# Altium footprint library LM2596_DC_DC.PcbLib: 2 footprints
Each footprint in its own frame and in the unit in brackets; x right, y up, seen from the top. Pads: shape width x height; smd on the part's side, far side on the other; paste and mask are expansions set on the pad; w line width, h text height; cw(c..) or ccw(c..) is an arc to the next point about the centre after c.
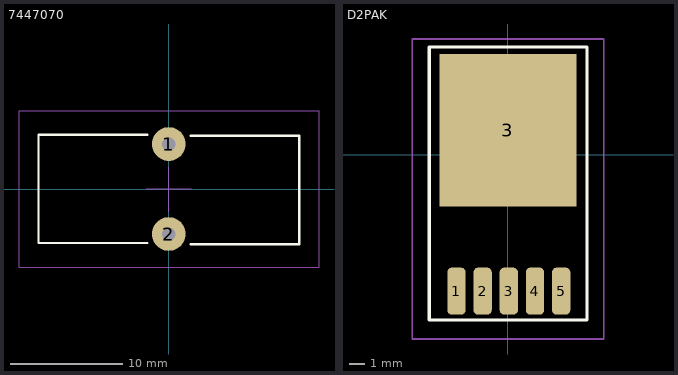
[diagram p0: the footprints below, top view; thin cyan lines are the x and y axes]

## 7447070 [mm] "0.984\" Dia x 0.433\" W (25.00mm x 11.00mm)"
height 25
pads (2):
  round 3 hole 1.2: 1(0,4) 2(0,-4)
Top Overlay:
  lines w0.2: -1.903,-4.809 -11.585,-4.809 -11.585,4.822 -1.903,4.822 ; 1.922,-4.902 11.603,-4.902 11.603,4.728 1.922,4.728
Mechanical 15:
  lines w0.1: -2,0.003 2,0.003 ; -0.013,-2.012 -0.013,1.988 ; -13.321,-6.964 -13.321,6.968 0.084,6.968 13.357,6.968 13.357,-6.964 -13.321,-6.964
3D body "7447070+(rev1).stp": height 22.21, standoff -14.69, extent -11.209,-4.496 11.209,4.497

## D2PAK [mm]
pads (6):
  rrect50% 1.2x3.075 smd: 1(-3.373,-8.933) 2(-1.658,-8.933) 3(0.056,-8.933) 4(1.771,-8.933) 5(3.485,-8.933)
  rect 9x10 smd: 3(0.003,1.607)
Top Overlay:
  lines w0.2: -5.152,-10.822 -5.152,7.051 5.163,7.051 5.163,-10.822 -5.149,-10.822
Mechanical 15:
  lines w0.1: -1.5,0 1.5,0 ; 0,-1.5 0,1.5 ; -6.26,-12.067 6.269,-12.067 6.269,7.578 -6.26,7.578 -6.26,-4.5 -6.26,-12.067
3D body "TO263-5-1.stp": height 4.22, standoff 0, extent -4.911,-9.561 4.911,5.041